# Altium footprint library DSO.PcbLib: 27 footprints (part 1 of 2)
Each footprint in its own frame and in the unit in brackets; x right, y up, seen from the top. Pads: shape width x height; smd on the part's side, far side on the other; paste and mask are expansions set on the pad; w line width, h text height; cw(c..) or ccw(c..) is an arc to the next point about the centre after c.
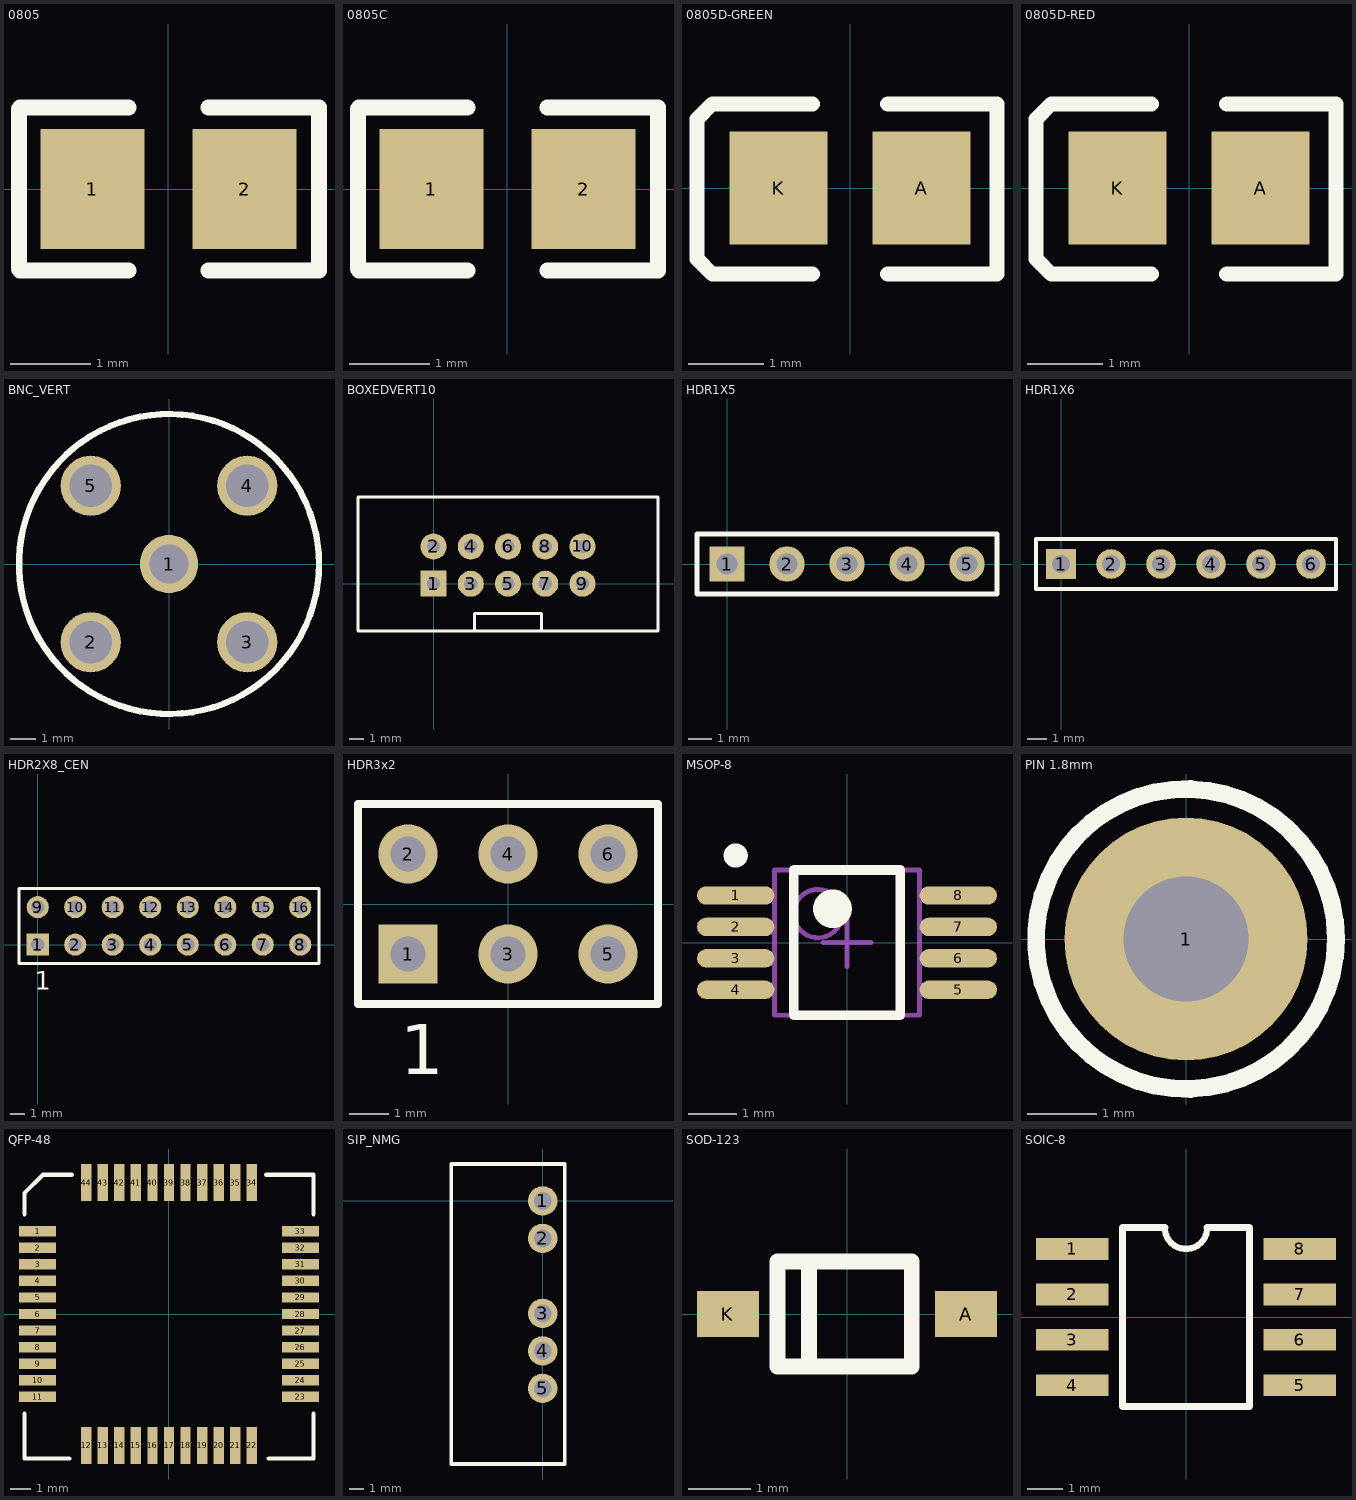
[diagram p0: the footprints below, top view; thin cyan lines are the x and y axes]

## 0805 [mm] "0805 Footprint"
height 1
pads (2):
  rect 1.3x1.5 smd: 1(-0.95,0) 2(0.95,0)
Top Overlay:
  lines w0.2: -1.867,-1 -1.867,1 ; -1.854,-1.016 -0.5,-1.016 ; -1.854,1.016 -0.5,1.016 ; 0.5,-1.016 1.88,-1.016 ; 0.5,1.016 1.88,1.016 ; 1.88,-1 1.88,1
3D body "RES0805.stp": height 0.5, standoff 0, extent -1,-0.63 1,0.62

## 0805C [mm] "0805 Footprint"
height 1
pads (2):
  rect 1.3x1.5 smd: 1(-0.95,0) 2(0.95,0)
Top Overlay:
  lines w0.2: -1.867,-1 -1.867,1 ; -1.854,-1.016 -0.5,-1.016 ; -1.854,1.016 -0.5,1.016 ; 0.5,-1.016 1.88,-1.016 ; 0.5,1.016 1.88,1.016 ; 1.88,-1 1.88,1
3D body "CAP0805.stp": height 0.78, standoff 0, extent -1,-0.625 1,0.625

## 0805D-GREEN [mm] "0805 Diode"
height 1
pads (2):
  rect 1.3x1.5 smd: A(0.95,0) K(-0.95,0)
Top Overlay:
  lines w0.2: -0.5,-1.143 -1.829,-1.143 -2.032,-0.94 -2.032,0.914 -1.829,1.118 -0.5,1.118 ; 0.5,-1.143 1.95,-1.143 1.95,1.118 0.5,1.118
3D body "User Library-led_0805.step": height 1.1, standoff 0, extent -1.01,-0.625 1.01,0.625

## 0805D-RED [mm] "0805 Diode RED"
height 1
pads (2):
  rect 1.3x1.5 smd: A(0.95,0) K(-0.95,0)
Top Overlay:
  lines w0.2: -0.5,-1.143 -1.829,-1.143 -2.032,-0.94 -2.032,0.914 -1.829,1.118 -0.5,1.118 ; 0.5,-1.143 1.95,-1.143 1.95,1.118 0.5,1.118
3D body "LED-0805-RED.STEP": height 0.9, standoff -0.01, extent -1.05,-0.675 1.05,0.675

## BNC_VERT [mil] "BNC vertical connector"
height 539.37
pads (5):
  round 92 hole 62: 1(0,0)
  round 95 hole 67: 2(-123.23,-123.23) 3(123.23,-123.23) 4(123.23,123.23) 5(-123.23,123.23)
Top Overlay:
  circle w10: c0,0 r236.22
3D body "BNC Connector.stp": height 539.37, standoff -192.91, extent -216.53,-216.92 216.54,216.93

## BOXEDVERT10 [mil] "IDC Header 2.54mm Boxed 10 pins"
height 346.46
pads (10):
  rect 70x70 hole 35.43: 1(0,0)
  round 70 hole 35.43: 2(0,100) 3(100,0) 4(100,100) 5(200,0) 6(200,100) 7(300,0) 8(300,100) 9(400,0) 10(400,100)
Top Overlay:
  lines w7.87: 110,-123.31 110,-80 290,-80 290,-123.31 ; -203,-126.5 -203,232.41 603,232.41 603,-126.5 -203,-126.5
3D body "User Library-BH-10__64 (3).step": height 358.87, standoff -117.51, extent -203.54,-129.13 603.55,237.01

## HDR1X5 [mm] "Connector; Header; 5 Position"
pads (5):
  rect 1.5x1.5 hole 0.9: 1(0,0)
  round 1.5 hole 0.9: 2(2.54,0) 3(5.08,0) 4(7.62,0) 5(10.16,0)
Top Overlay:
  lines w0.2: -1.27,-1.27 -1.27,1.27 11.43,1.27 11.43,-1.27 -1.27,-1.27

## HDR1X6 [mm] "Connector; Header; 6 Position"
pads (6):
  rect 1.5x1.5 hole 0.9: 1(0,0)
  round 1.5 hole 0.9: 2(2.54,0) 3(5.08,0) 4(7.62,0) 5(10.16,0) 6(12.7,0)
Top Overlay:
  lines w0.2: -1.27,-1.27 -1.27,1.27 13.97,1.27 13.97,-1.27 -1.27,-1.27

## HDR2X8_CEN [mm] "Connector; Header; 8x2 Position"
pads (16):
  rect 1.5x1.5 hole 0.9: 1(0,0)
  round 1.5 hole 0.9: 2(2.54,0) 3(5.08,0) 4(7.62,0) 5(10.16,0) 6(12.7,0) 7(15.24,0) 8(17.78,0) 9(0,2.54) 10(2.54,2.54) 11(5.08,2.54) 12(7.62,2.54) 13(10.16,2.54) 14(12.7,2.54) 15(15.24,2.54) 16(17.78,2.54)
Top Overlay:
  lines w0.2: -1.27,-1.27 19.05,-1.27 19.05,3.81 -1.27,3.81 -1.27,-1.27
  text "1" at -0.203,-3.048 h1.27

## HDR3x2 [mm] "Connector; Header; 8x2 Position"
pads (6):
  rect 1.5x1.5 hole 0.9: 1(-2.54,-1.27)
  round 1.5 hole 0.9: 2(-2.54,1.27) 3(0,-1.27) 4(0,1.27) 5(2.54,-1.27) 6(2.54,1.27)
Top Overlay:
  lines w0.2: -3.81,-2.54 -3.81,2.54 3.81,2.54 3.81,-2.54 -3.81,-2.54
  text "1" at -2.743,-4.318 h1.27
3D body "Pin Header 2x3 TH Pitch 2.54mm.stp": height 9.5, standoff -3.2, extent -3.81,-2.54 3.81,2.54

## MSOP-8 [mm] "TSOP, 8-Leads, Body 3.00x3.00mm, Pitch 0.65mm, IPC Low Density"
height 1.1
pads (8):
  oval 1.6x0.38 smd: 1(-2.3,0.975) 2(-2.3,0.325) 3(-2.3,-0.325) 4(-2.3,-0.975) 5(2.3,-0.975) 6(2.3,-0.325) 7(2.3,0.325) 8(2.3,0.975)
Top Overlay:
  circle w0.25: c-2.3,1.8 r0.125
  circle w0.4: c-0.3,0.7 r0.2
  lines w0.2: -1.1,-1.5 -1.1,1.5 1.1,1.5 1.1,-1.5 -1.1,-1.5
Mechanical 13:
  circle w0.1: c-0.6,0.6 r0.5
  lines w0.1: -1.5,-1.5 -1.5,1.5 1.5,1.5 1.5,-1.5 -1.5,-1.5
Mechanical 15:
  lines w0.1: -0.5,0 0.5,0 ; 0,-0.5 0,0.5
3D body "TSOP65P490X110-8M.step": height 1.1, standoff 0, extent -2.45,-1.5 2.45,1.5

## PIN 1.8mm [mm] "Single Pin"
height 10
pads (1):
  round 3.5 hole 1.8: 1(0,0)
Top Overlay:
  circle w0.254: c0,0 r2.159

## QFP-48 [mm]
height 1
pads (44):
  rect 1.8x0.5 smd: 1(-6.35,4) 2(-6.35,3.2) 3(-6.35,2.4) 4(-6.35,1.6) 5(-6.35,0.8) 6(-6.35,0) 7(-6.35,-0.8) 8(-6.35,-1.6) 9(-6.35,-2.4) 10(-6.35,-3.2) 11(-6.35,-4) 23(6.35,-4) 24(6.35,-3.2) 25(6.35,-2.4) 26(6.35,-1.6) 27(6.35,-0.8) 28(6.35,0) 29(6.35,0.8) 30(6.35,1.6) 31(6.35,2.4) 32(6.35,3.2) 33(6.35,4)
  rect 0.5x1.8 smd: 12(-4,-6.35) 13(-3.2,-6.35) 14(-2.4,-6.35) 15(-1.6,-6.35) 16(-0.8,-6.35) 17(0,-6.35) 18(0.8,-6.35) 19(1.6,-6.35) 20(2.4,-6.35) 21(3.2,-6.35) 22(4,-6.35) 34(4,6.35) 35(3.2,6.35) 36(2.4,6.35) 37(1.6,6.35) 38(0.8,6.35) 39(0,6.35) 40(-0.8,6.35) 41(-1.6,6.35) 42(-2.4,6.35) 43(-3.2,6.35) 44(-4,6.35)
Top Overlay:
  lines w0.203: -6.985,-4.826 -6.985,-6.985 -4.826,-6.985 ; -6.985,4.826 -6.985,5.842 -6.096,6.731 -4.699,6.731 ; 4.699,6.731 6.985,6.731 6.985,4.826 ; 4.826,-6.985 6.985,-6.985 6.985,-4.826
3D body "User Library-44 pin tqfp ic package.step": height 1.13, standoff 0.02, extent -5.974,-6 6.026,6

## SIP_NMG [mm] "SIP for NMG DC to DC"
height 7.65
pads (5):
  round 2 hole 1.2: 1(0,0) 2(0,-2.54) 3(0,-7.62) 4(0,-10.16) 5(0,-12.7)
Top Overlay:
  lines w0.254: -6.2,-17.82 -6.2,2.5 1.5,2.5 1.5,-17.82 -6.2,-17.82
3D body: height 10.2, standoff 0, extent -6.2,-17.8 1.5,2.5

## SOD-123 [mm] "SMD diode"
height 1.35
pads (2):
  rect 1x0.75 smd: A(1.925,0) K(-1.925,0)
Top Overlay:
  lines w0.254: -0.615,-0.85 -0.615,0.85 ; 1.036,-0.85 -1.123,-0.85 -1.123,0.85 1.036,0.85 ; 1.049,-0.85 1.049,0.85
3D body "User Library-SOD-123_DiodesInc.STEP": height 1.42, standoff -0.03, extent -1.93,-0.862 1.92,0.838

## SOIC-8 [mil] "SOIC-8 Footprint"
height 68.9
pads (8):
  rect 80x24 smd: 1(-125,75) 2(-125,25) 3(-125,-25) 4(-125,-75) 5(125,-75) 6(125,-25) 7(125,25) 8(125,75)
Top Overlay:
  lines w7: -23.43,98.42 ccw(c0,98.42) 23.43,98.42
  lines w7.87: -23.43,98.43 -70,98.43 -70,-98.43 70,-98.43 70,98.43 23.43,98.43
3D body "SOIC127P600X175-8N.step": height 68.98, standoff 0, extent -117.99,-98.43 117.99,98.43